# Altium schematic symbol library 0603_LED.SchLib: 1 symbol
Pins are listed as number, name and electrical type; pins without a type are passive.

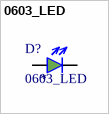
[diagram p0: symbol 0603_LED]

## 0603_LED
designator D?
-40℃~+85℃ Red 0603  Light Emitting Diodes (LED) ROHS; LCSC: *
footprint 0603_LED
pins: 1 K, 2 A